# Altium footprint library DC2DC_Buck_Boost_Converter_PcbLib.PcbLib: 17 footprints (part 1 of 2)
Each footprint in its own frame and in the unit in brackets; x right, y up, seen from the top. Pads: shape width x height; smd on the part's side, far side on the other; paste and mask are expansions set on the pad; w line width, h text height; cw(c..) or ccw(c..) is an arc to the next point about the centre after c.
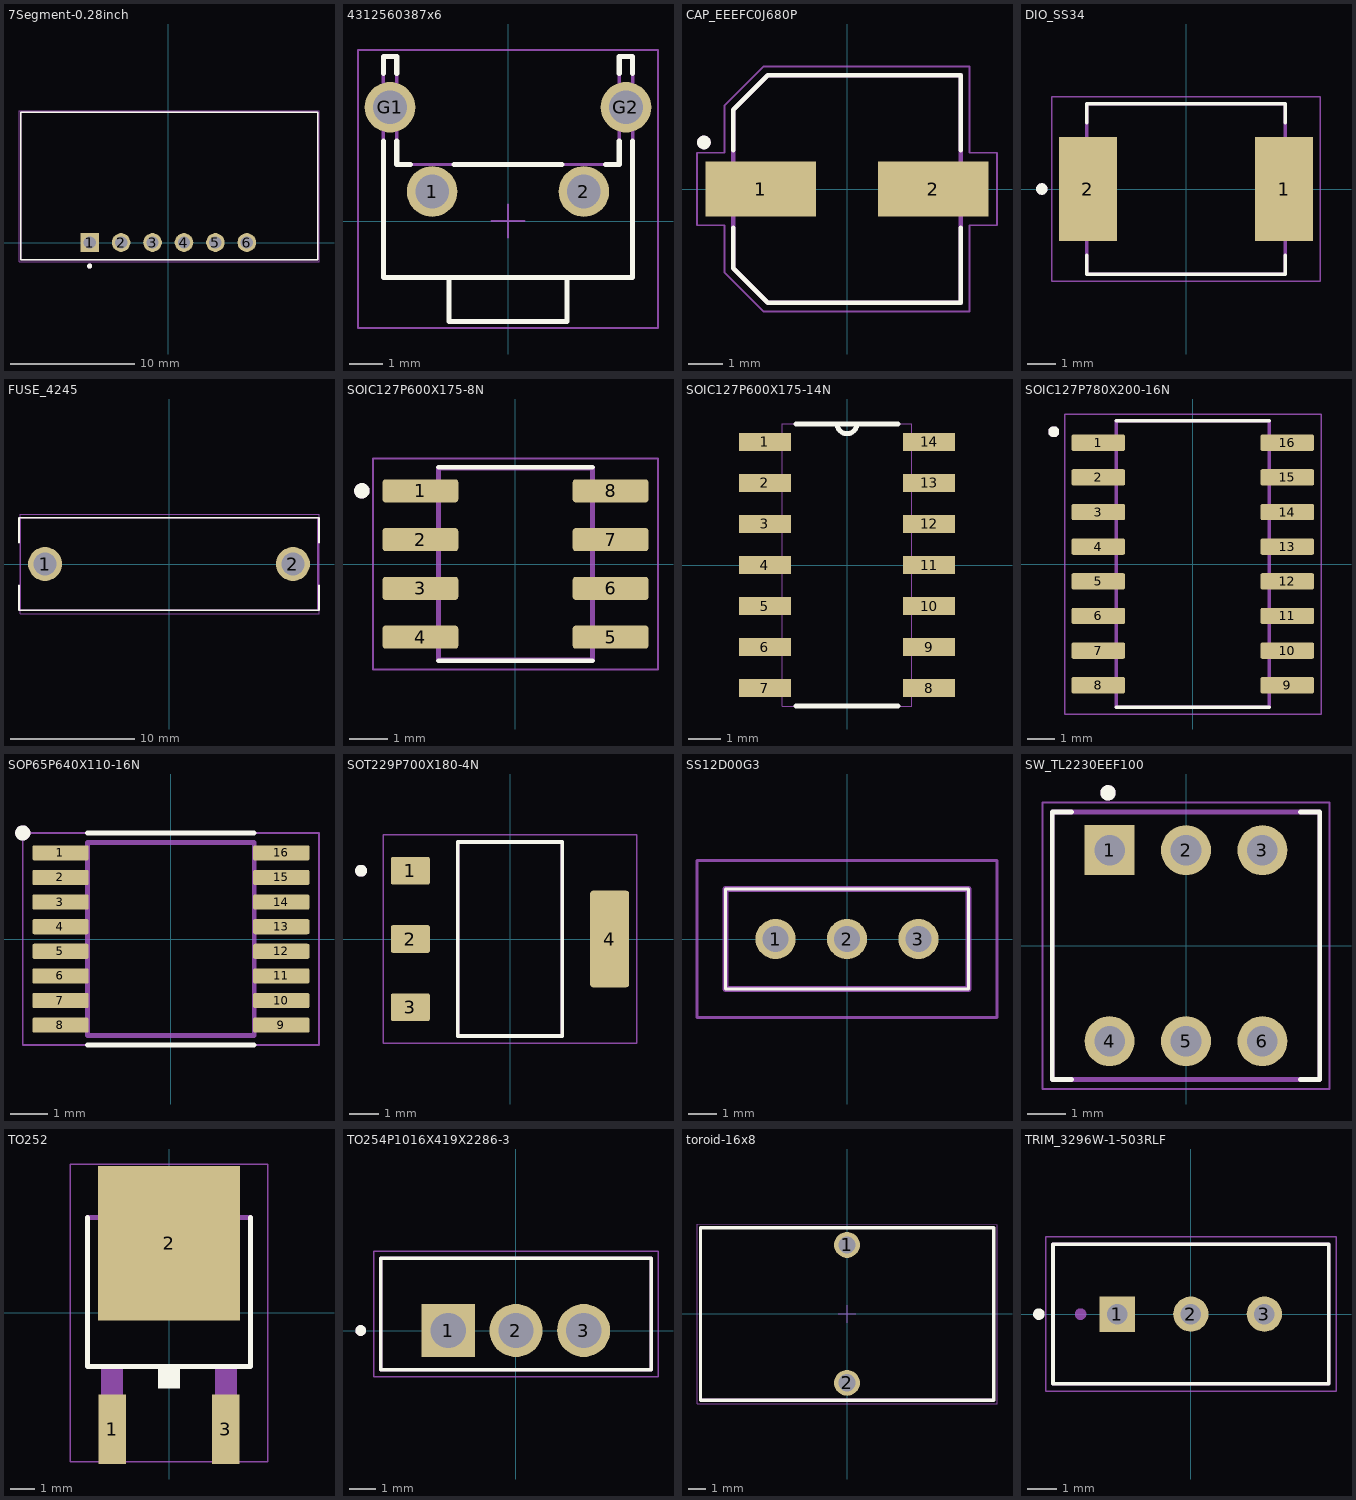
[diagram p0: the footprints below, top view; thin cyan lines are the x and y axes]

## 7Segment-0.28inch [mm]
pads (6):
  rect 1.508x1.508 / inner round 1.508 / far side rect 1.508x1.508 hole 1: 1(-6.35,0)
  round 1.508 hole 1: 2(-3.81,0) 3(-1.27,0) 4(1.27,0) 5(3.81,0) 6(6.35,0)
Top Overlay:
  circle w0.2: c-6.35,-1.905 r0.1
  lines w0.127: -11.922,-1.397 12.078,-1.397 12.078,10.541 -11.922,10.541 -11.922,-1.397
Mechanical 13:
  circle w0.2: c-6.35,-1.905 r0.1
  lines w0.127: 11.98,10.541 -11.922,10.541 -11.922,-1.397 12.078,-1.397 12.078,10.541
Mechanical 15:
  lines w0.05: -12.059,-1.549 12.181,-1.549 12.181,10.651 -12.059,10.651 -12.059,-1.549
3D body "segment display 3D model.STEP": height 5, standoff -4.5, extent 3.615,-0.928 10.715,10.072
3D body "segment display 3D model.STEP": height 5, standoff -4.5, extent -3.485,-0.928 3.615,10.072
3D body "segment display 3D model.STEP": height 5, standoff -4.5, extent -10.585,-0.928 -3.485,10.072

## 4312560387x6 [mm] "6x6mm right angle Tact Switch with ground terminal, THT version"
height 7.2
pads (4):
  round 1.5 hole 1: 1(-2.25,0.875) 2(2.25,0.875) G1(-3.5,3.375) G2(3.5,3.375)
Top Overlay:
  lines w0.15: -3.7,2.375 -3.7,-1.675 3.7,-1.675 3.7,2.375 ; -3.7,4.375 -3.7,4.875 -3.3,4.875 -3.3,4.375 ; -3.3,2.375 -3.3,1.675 -2.9,1.675 ; -1.75,-1.675 -1.75,-2.975 1.75,-2.975 1.75,-1.675 ; -1.6,1.675 1.6,1.675 ; 2.9,1.675 3.3,1.675 3.3,2.375 ; 3.3,4.375 3.3,4.875 3.7,4.875 3.7,4.375
Top Courtyard:
  lines w0.05: -0.5,0 0.5,0 ; 0,-0.5 0,0.5 ; -4.45,-3.175 -4.45,5.075 4.45,5.075 4.45,-3.175 -4.45,-3.175
Top Component Outline:
  lines w0.1: -1.75,-1.675 -1.75,-2.975 1.75,-2.975 1.75,-1.675 ; -3.7,-1.675 -3.7,4.875 -3.3,4.875 -3.3,1.675 3.3,1.675 3.3,4.875 3.7,4.875 3.7,-1.675 -3.7,-1.675
3D body "4312560387x6.stp": height 7.25, standoff -3.45, extent -4.2,-2.975 4.2,4.875

## CAP_EEEFC0J680P [mm]
pads (2):
  rect 3.2x1.6 smd: 1(-2.5,0) 2(2.5,0)
Top Overlay:
  circle w0.2: c-4.15,1.35 r0.1
  lines w0.127: -3.3,-1.12 -3.3,-2.3 -2.3,-3.3 3.3,-3.3 3.3,-1.12 ; -3.3,1.12 -3.3,2.3 -2.3,3.3 3.3,3.3 3.3,1.12
Mechanical 13:
  circle w0.2: c-4.15,1.35 r0.1
  lines w0.127: -3.3,-2.3 -3.3,2.3 -2.3,3.3 3.3,3.3 3.3,-3.3 -2.3,-3.3 -3.3,-2.3
Mechanical 15:
  lines w0.05: -4.35,-1.05 -3.55,-1.05 -3.55,-2.425 -2.425,-3.55 3.55,-3.55 3.55,-1.05 4.35,-1.05 4.35,1.05 3.55,1.05 3.55,3.55 -2.425,3.55 -3.55,2.425 -3.55,1.05 -4.35,1.05 -4.35,-1.05
3D body "step_temp.STEP": height 0, standoff 0, extent 0,0 0,0
3D body "EEE-FC0J680P.STEP": height 5.85, standoff 0.05, extent -3.65,-3.3 3.65,3.3

## DIO_SS34 [mm]
height 2.65
pads (2):
  rect 2x3.6 smd: 1(3.4,0) 2(-3.4,0)
Top Overlay:
  circle w0.2: c-5,0 r0.1
  lines w0.127: -3.437,-2.3 -3.437,-2.95 3.437,-2.95 3.437,-2.3 ; -3.437,2.3 -3.437,2.95 3.437,2.95 3.437,2.3
Mechanical 13:
  circle w0.2: c-5,0 r0.1
  lines w0.127: -3.437,-2.95 3.437,-2.95 3.437,2.95 -3.437,2.95 -3.437,-2.95
Mechanical 15:
  lines w0.05: -4.65,-3.2 4.65,-3.2 4.65,3.2 -4.65,3.2 -4.65,-3.2
3D body "step_temp.STEP": height 2.65, standoff 0, extent -3.975,-2.95 3.975,2.95

## FUSE_4245 [mm]
height 10.92
pads (2):
  round 2.745 hole 1.83: 1(-10,0) 2(10,0)
Top Overlay:
  lines w0.127: -12.105,-1.72 -12.105,-3.745 12.105,-3.745 12.105,-1.72 ; -12.105,1.72 -12.105,3.745 12.105,3.745 12.105,1.72
Mechanical 13:
  lines w0.127: -12,-3.745 12,-3.745 12,3.745 -12,3.745 -12,-3.745
Mechanical 15:
  lines w0.05: -12,-3.995 -12,3.995 12.105,3.995 12.105,-3.995 -12,-3.995
3D body "5SFP 1-R.STEP": height 9.41, standoff 4.31, extent -10,-2.433 10,2.667
3D body "BK-6003--3DModel-STEP-46669.STEP": height 10.98, standoff -3.43, extent 3.936,-4.005 12.064,4.004
3D body "BK-6003--3DModel-STEP-46669.STEP": height 10.98, standoff -3.43, extent -12.128,-4.004 -4,4.004

## SOIC127P600X175-8N [mm]
pads (8):
  rrect25% 1.97x0.6 smd: 1(-2.475,1.905) 2(-2.475,0.635) 3(-2.475,-0.635) 4(-2.475,-1.905) 5(2.475,-1.905) 6(2.475,-0.635) 7(2.475,0.635) 8(2.475,1.905)
Top Overlay:
  circle w0.2: c-4,1.905 r0.1
  lines w0.127: -2,-2.519 2,-2.519 ; -2,2.519 2,2.519
Mechanical 13:
  circle w0.2: c-4,1.905 r0.1
  lines w0.127: -2,-2.5 2,-2.5 2,2.5 -2,2.5 -2,-2.5
Mechanical 15:
  lines w0.05: -3.71,-2.75 3.71,-2.75 3.71,2.75 -3.71,2.75 -3.71,-2.75
3D body "AO4407A.STEP": height 1.75, standoff 0, extent -3,-2.45 3,2.45

## SOIC127P600X175-14N [mil]
pads (14):
  rect 63x22 smd: 1(-100,150) 2(-100,100) 3(-100,50) 4(-100,0) 5(-100,-50) 6(-100,-100) 7(-100,-150) 8(100,-150) 9(100,-100) 10(100,-50) 11(100,0) 12(100,50) 13(100,100) 14(100,150)
Top Overlay:
  lines w6: -62,-172 62,-172 ; -62,172 -12,172 ; 62,172 12,172 ; -12,172 ccw(c0,172) 12,172 ; -12,172 12,172
Mechanical 13:
  lines w0: -12,172 ccw(c0,172) 12,172 ; -12,172 12,172 ; -12,172 -79,172 -79,-172 79,-172 79,172 12,172 ; -118,-160 -118,-140 -79,-140 -79,-160 -118,-160 ; -118,-110 -118,-90 -79,-90 -79,-110 -118,-110 ; -118,-60 -118,-40 -79,-40 -79,-60 -118,-60 ; -118,-10 -118,10 -79,10 -79,-10 -118,-10 ; -118,40 -118,60 -79,60 -79,40 -118,40 ; -118,90 -118,110 -79,110 -79,90 -118,90 ; -118,140 -118,160 -79,160 -79,140 -118,140 ; 79,-160 79,-140 118,-140 118,-160 79,-160 ; 79,-110 79,-90 118,-90 118,-110 79,-110 ; 79,-60 79,-40 118,-40 118,-60 79,-60 ; 79,-10 79,10 118,10 118,-10 79,-10 ; 79,40 79,60 118,60 118,40 79,40 ; 79,90 79,110 118,110 118,90 79,90 ; 79,140 79,160 118,160 118,140 79,140
3D body "74ACT04SC.STEP": height 69.9, standoff 1, extent -118.11,-170 118.11,170.55

## SOIC127P780X200-16N [mm]
height 2
pads (16):
  rrect25% 1.97x0.6 smd: 1(-3.465,4.445) 2(-3.465,3.175) 3(-3.465,1.905) 4(-3.465,0.635) 5(-3.465,-0.635) 6(-3.465,-1.905) 7(-3.465,-3.175) 8(-3.465,-4.445) 9(3.465,-4.445) 10(3.465,-3.175) 11(3.465,-1.905) 12(3.465,-0.635) 13(3.465,0.635) 14(3.465,1.905) 15(3.465,3.175) 16(3.465,4.445)
Top Overlay:
  circle w0.2: c-5.1,4.85 r0.1
  lines w0.127: -2.8,-5.25 2.8,-5.25 ; -2.8,5.25 2.8,5.25
Mechanical 13:
  circle w0.2: c-5.1,4.85 r0.1
  lines w0.127: -2.8,-5.25 2.8,-5.25 2.8,5.25 -2.8,5.25 -2.8,-5.25
Mechanical 15:
  lines w0.05: -4.7,-5.5 4.7,-5.5 4.7,5.5 -4.7,5.5 -4.7,-5.5
3D body "step_temp.STEP": height 2, standoff 0, extent -3.9,-5.1 3.9,5.1

## SOP65P640X110-16N [mm]
pads (16):
  rrect25% 1.49x0.4 smd: 1(-2.915,2.275) 2(-2.915,1.625) 3(-2.915,0.975) 4(-2.915,0.325) 5(-2.915,-0.325) 6(-2.915,-0.975) 7(-2.915,-1.625) 8(-2.915,-2.275) 9(2.915,-2.275) 10(2.915,-1.625) 11(2.915,-0.975) 12(2.915,-0.325) 13(2.915,0.325) 14(2.915,0.975) 15(2.915,1.625) 16(2.915,2.275)
Top Overlay:
  circle w0.2: c-3.91,2.8 r0.1
  lines w0.127: -2.2,-2.795 2.2,-2.795 ; -2.2,2.795 2.2,2.795
Mechanical 13:
  circle w0.2: c-3.91,2.8 r0.1
  lines w0.127: -2.2,-2.55 -2.2,2.55 2.2,2.55 2.2,-2.55 -2.2,-2.55
Mechanical 15:
  lines w0.05: -3.91,-2.8 -3.91,2.8 3.91,2.8 3.91,-2.8 -3.91,-2.8
3D body "S-8254AAEFT-TB-G.STEP": height 1.1, standoff 0, extent -3.2,-2.55 3.2,2.55

## SOT229P700X180-4N [mm]
height 1.8
pads (4):
  rrect15% 1.31x0.93 smd: 1(-3.345,2.29) 2(-3.345,0) 3(-3.345,-2.29)
  rrect15% 1.31x3.24 smd: 4(3.345,0)
Top Overlay:
  circle w0.2: c-5,2.29 r0.1
  lines w0.127: -1.753,-3.253 -1.753,3.253 1.753,3.253 1.753,-3.253 -1.753,-3.253
Mechanical 13:
  circle w0.2: c-5,2.29 r0.1
  lines w0.127: -1.753,-3.253 -1.753,3.253 1.753,3.253 1.753,-3.253 -1.753,-3.253
Mechanical 15:
  lines w0.05: -4.25,-3.502 4.25,-3.502 4.25,3.502 -4.25,3.502 -4.25,-3.502
3D body "step_temp.STEP": height 1.8, standoff 0, extent -3.499,-3.251 3.499,3.251

## SS12D00G3 [mm]
pads (3):
  round 1.4 hole 0.9: 1(-2.5,0) 2(0,0) 3(2.5,0)
Top Overlay:
  lines w0.1: -4.25,-1.75 -4.25,1.75 4.25,1.75 4.25,-1.75 -4.25,-1.75
Mechanical 15:
  lines w0.2: -4.25,-1.75 -4.25,1.75 4.25,1.75 4.25,-1.75 -4.25,-1.75
Mechanical 20:
  lines w0.1: -5.25,-2.75 -5.25,2.75 5.25,2.75 5.25,-2.75 -5.25,-2.75
3D body "SS12D00G3.stp": height 6.78, standoff -3.57, extent -4.25,-1.75 4.25,1.75

## SW_TL2230EEF100 [mm]
height 12.5
pads (6):
  rect 1.308x1.308 hole 0.8: 1(-2,2.5)
  round 1.308 hole 0.8: 2(0,2.5) 3(2,2.5) 4(-2,-2.5) 5(0,-2.5) 6(2,-2.5)
Top Overlay:
  circle w0.2: c-2.04,4 r0.1
  lines w0.127: -3,-3.5 -3.5,-3.5 -3.5,3.5 -3,3.5 ; 3,-3.5 3.5,-3.5 3.5,3.5 3,3.5
Mechanical 13:
  circle w0.2: c-2.04,4 r0.1
  lines w0.127: -3.5,-3.5 -3.5,3.5 3.5,3.5 3.5,-3.5 -3.5,-3.5
Mechanical 15:
  lines w0.05: -3.75,-3.75 -3.75,3.75 3.75,3.75 3.75,-3.75 -3.75,-3.75
3D body "step_temp.STEP": height 12.51, standoff -3.49, extent -3.5,-3.5 3.5,3.5

## TO252 [mm]
pads (3):
  rect 1.1x2.794 smd: 1(-2.28,-4.674) 3(2.28,-4.674)
  rect 5.7x6.2 smd: 2(0,2.794)
Top Overlay:
  region: 0.432,-3.023 -0.432,-3.023 -0.432,-2.261 0.432,-2.261
  lines w0.203: -3.277,3.835 -3.277,-2.159 3.277,-2.159 3.277,3.835
Mechanical 13:
  region: 2.565,4.648 2.565,3.937 -2.565,3.937 -2.565,4.648 -2.108,5.105 2.108,5.105
  region: 2.718,-5.156 1.854,-5.156 1.854,-2.261 2.718,-2.261
  region: -1.854,-5.156 -2.718,-5.156 -2.718,-2.261 -1.854,-2.261
  lines w0.203: -3.277,3.835 3.277,3.835 ; -2.565,3.937 2.565,3.937 2.565,4.648 2.108,5.105 -2.108,5.105 -2.565,4.648 -2.565,3.937
Mechanical 15:
  lines w0.051: -3.973,-5.983 -3.973,5.983 3.973,5.983 3.973,-5.983 -3.973,-5.983
3D body "step_temp.STEP": height 2.52, standoff 0, extent -3.27,-4.952 3.27,4.952

## TO254P1016X419X2286-3 [mm]
height 22.86
pads (3):
  rect 1.995x1.995 / inner round 1.995 / far side rect 1.995x1.995 hole 1.33: 1(-2.54,0)
  round 1.995 hole 1.33: 2(0,0) 3(2.54,0)
Top Overlay:
  circle w0.2: c-5.83,0 r0.1
  lines w0.127: -5.08,-1.478 -5.08,2.718 5.08,2.718 5.08,-1.478 -5.08,-1.478
Mechanical 13:
  circle w0.2: c-5.83,0 r0.1
  lines w0.127: -5.08,-1.478 -5.08,2.718 5.08,2.718 5.08,-1.478 -5.08,-1.478
Mechanical 15:
  lines w0.05: -5.33,-1.727 5.33,-1.727 5.33,2.967 -5.33,2.967 -5.33,-1.727
3D body "step_temp.STEP": height 22.86, standoff -8.38, extent -5.08,-1.473 5.08,2.718

## toroid-16x8 [mm] "THT Leaded Toroidal Storage Choke, body 17x11mm"
height 17
pads (2):
  round 1.5 hole 1: 1(0,4) 2(0,-4)
Top Overlay:
  lines w0.2: -8.497,-4.99 -8.487,-5 8.5,-5 8.5,4.988 8.496,4.992 -8.494,4.992 -8.497,4.988 -8.497,-4.99
Top Courtyard:
  lines w0.05: -8.7,-5.207 8.7,-5.207 8.7,5.182 -8.7,5.195 -8.7,-5.205 ; -0.5,0 0.5,0 ; 0,-0.5 0,0.5
Top 3D Body:
  lines w0.1: -8.5,-4.953 8.5,-4.953 8.5,4.981 ; -8.497,-4.993 -8.497,4.998 ; -8.489,4.992 8.511,4.992
Top Component Outline:
  lines w0.1: -8.5,-4.983 -8.5,5.025 ; -8.5,-4.953 8.5,-4.953 8.5,4.984 ; -8.499,4.983 8.501,4.983
3D body "744131.stp": height 14.26, standoff -11.92, extent -7.26,-4.399 7.26,4.399

## TRIM_3296W-1-503RLF [mm]
pads (3):
  rect 1.218x1.218 hole 0.71: 1(-2.54,0)
  round 1.218 hole 0.71: 2(0,0) 3(2.54,0)
Top Overlay:
  circle w0.2: c-5.25,0 r0.1
  lines w0.127: -4.765,-2.41 4.765,-2.41 4.765,2.42 -4.765,2.42 -4.765,-2.41
Mechanical 13:
  circle w0.2: c-3.81,0 r0.1
  lines w0.127: -4.765,-2.41 -4.765,2.42 4.765,2.42 4.765,-2.41 -4.765,-2.41
Mechanical 15:
  lines w0.05: -5.015,-2.66 -5.015,2.67 5.015,2.67 5.015,-2.66 -5.015,-2.66
3D body "step_temp.STEP": height 11.55, standoff -7.72, extent -4.765,-2.41 4.765,2.42